# Altium footprint library wzy.PcbLib: 28 footprints (part 1 of 2)
Each footprint in its own frame and in the unit in brackets; x right, y up, seen from the top. Pads: shape width x height; smd on the part's side, far side on the other; paste and mask are expansions set on the pad; w line width, h text height; cw(c..) or ccw(c..) is an arc to the next point about the centre after c.
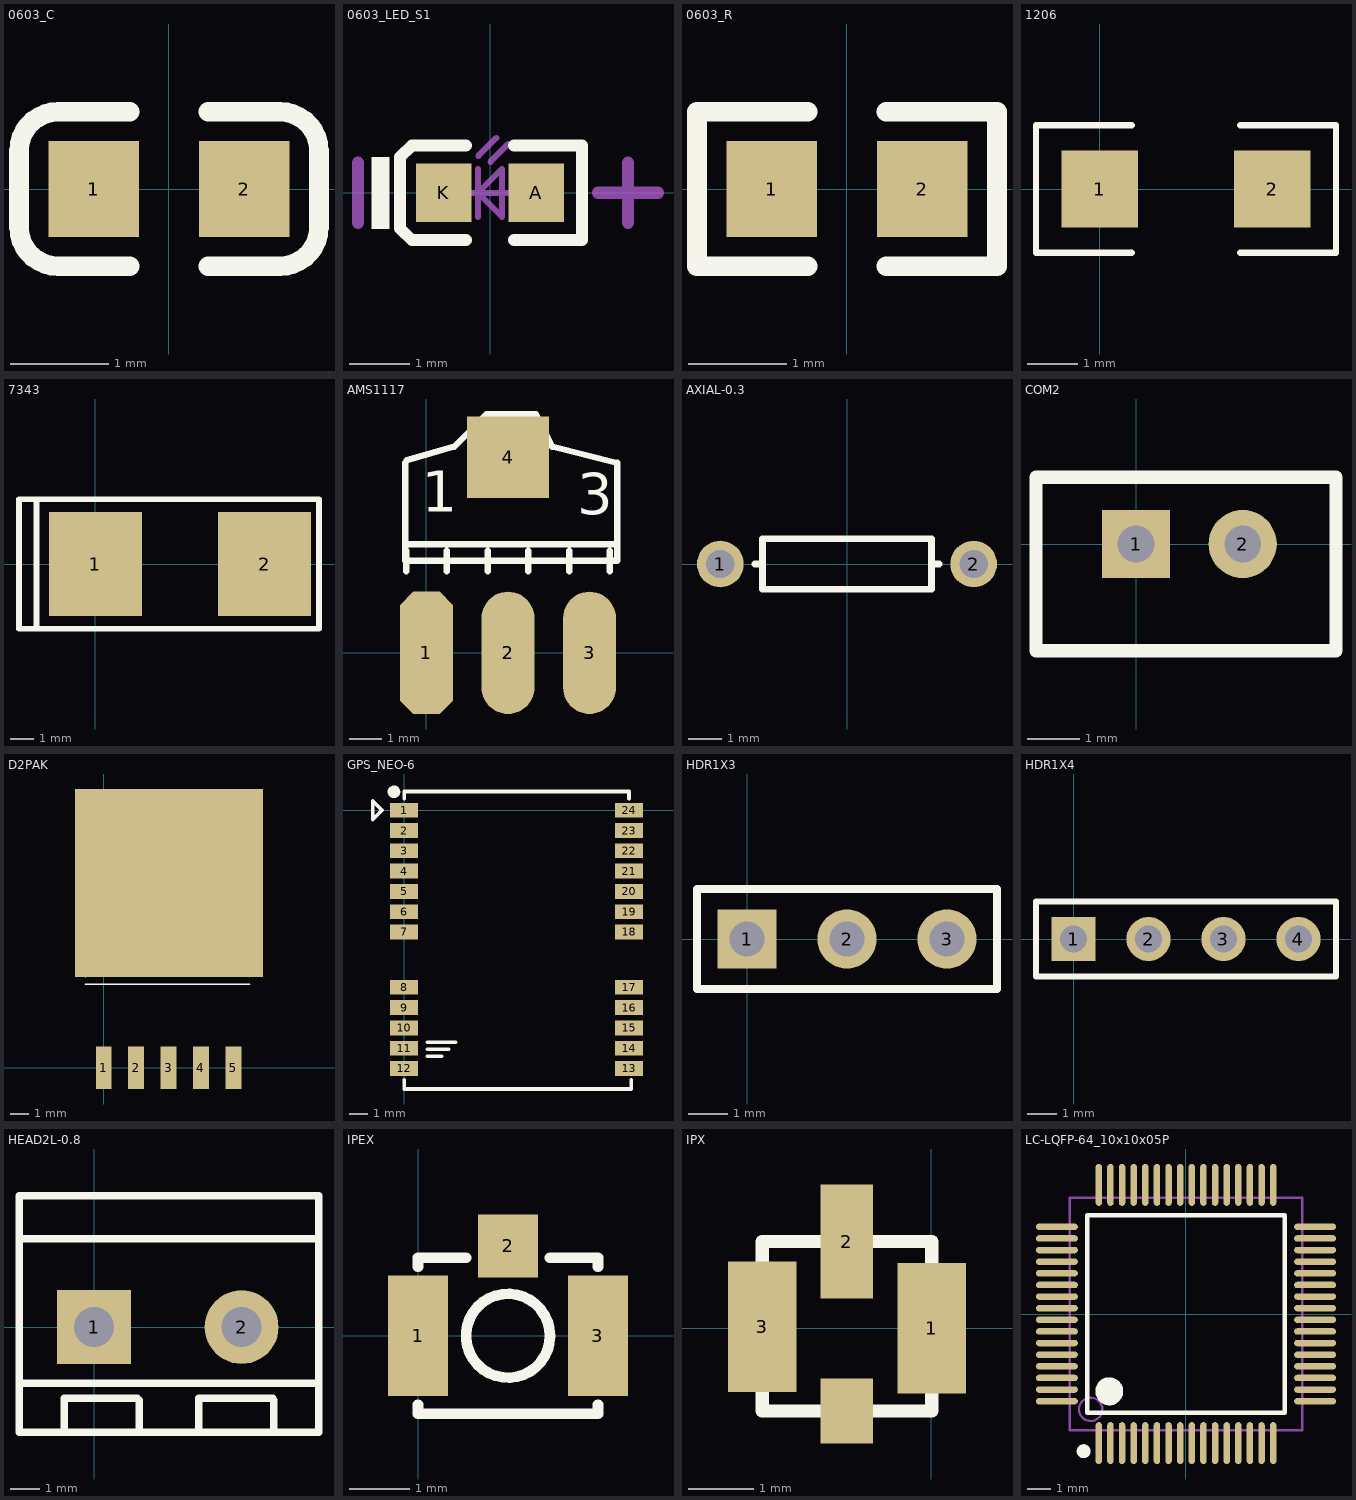
[diagram p0: the footprints below, top view; thin cyan lines are the x and y axes]

## 0603_C [mm]
pads (2):
  rect 0.93x0.98 smd: 1(-0.77,0) 2(0.77,0)
Top Overlay:
  lines w0.2: -0.4,-0.79 -1.135,-0.79 cw(c-1.135,-0.39) -1.535,-0.39 -1.535,0.39 cw(c-1.135,0.39) -1.135,0.79 -0.4,0.79 ; 0.4,-0.79 1.135,-0.79 ccw(c1.135,-0.39) 1.535,-0.39 1.535,0.39 ccw(c1.135,0.39) 1.135,0.79 0.4,0.79
3D body "User Library-0603 SMD Capacitor.STEP": height 0.3, standoff 0, extent -0.8,-0.4 0.8,0.4

## 0603_LED_S1 [mm]
pads (2):
  rect 0.93x0.98 smd: A(0.77,0) K(-0.77,0)
Top Overlay:
  rectangle: -1.975,-0.6 -1.675,0.6
  lines w0.2: -0.4,-0.79 -1.3,-0.79 -1.5,-0.597 -1.5,0.597 -1.3,0.79 -0.4,0.79 ; 0.4,-0.79 1.535,-0.79 1.535,0.79 0.4,0.79
Mechanical 13:
  lines w0.1: -0.4,0 0.4,0 ; -0.2,-0.4 -0.2,0.4 ; -0.195,0.617 0.105,0.917 ; 0.005,0.517 0.305,0.817 ; -0.2,0 0.2,-0.4 0.2,0.4 -0.2,0
Mechanical 15:
  lines w0.203: -2.2,-0.5 -2.2,0.5 ; 1.8,0 2.8,0 ; 2.3,-0.5 2.3,0.5
3D body "User Library-LED_0603_R.STEP": height 0.6, standoff 0, extent -0.8,-0.4 0.8,0.4

## 0603_R [mm]
pads (2):
  rect 0.93x0.98 smd: 1(-0.77,0) 2(0.77,0)
Top Overlay:
  lines w0.2: -0.4,-0.79 -1.535,-0.79 -1.535,0.79 -0.4,0.79 ; 0.4,-0.79 1.535,-0.79 1.535,0.79 0.4,0.79
3D body "User Library-RES_1609-0603.STEP": height 0.56, standoff 0, extent -0.85,-0.4 0.85,0.4

## 1206 [mil]
pads (2):
  rect 60x60 smd: 1(0,0) 2(135,0)
Top Overlay:
  lines w5: 25,-50 -50,-50 -50,50 25,50 ; 110,-50 185,-50 185,50 110,50

## 7343 [mm]
height 2.9
pads (2):
  rect 4x4.5 smd: 1(0,0) 2(7.3,0)
Top Overlay:
  lines w0.254: -2.54,-2.794 9.652,-2.794 9.652,2.794 -2.54,2.794 ; -2.54,-2.794 -2.54,2.794 ; -2.54,-2.794 -3.302,-2.794 -3.302,2.794 -2.54,2.794

## AMS1117 [mil]
pads (4):
  oct 65x150 smd: 1(0.03,-0.06)
  oval 65x150 smd: 2(100.03,-0.06) 3(200.03,-0.06)
  rect 100x100 smd: 4(100.03,239.94)
Top Overlay:
  lines w7.87: -25.97,232.94 -25.97,132.94 ; -24.97,99.94 -24.97,124.94 ; -24.3,236.27 34.03,252.94 74.03,292.94 134.03,292.94 154.03,252.94 234.03,232.94 234.03,112.94 ; 25.03,99.94 25.03,124.94 ; 75.03,99.94 75.03,124.94 ; 125.03,99.94 125.03,124.94 ; 175.03,99.94 175.03,124.94 ; 225.03,99.94 225.03,124.94 ; -25.97,132.94 -25.97,112.94 234.03,112.94 ; -25.97,132.94 234.03,132.94 234.03,112.94
  text "1" at -5.97,172.94 h50
  text "3" at 185,170 h50

## AXIAL-0.3 [mm] "Axial Device, Thru-Hole; 2 Leads; 0.3 in Pin Spacing"
height 1.524
pads (2):
  round 1.4 hole 0.85: 1(-3.81,0) 2(3.81,0)
Top Overlay:
  lines w0.2: -2.769,0 -2.54,0 ; 2.769,0 2.54,0 ; 2.54,0 2.54,0.762 -2.54,0.762 -2.54,-0.762 2.54,-0.762 2.54,0

## COM2 [mm]
pads (2):
  rect 1.3x1.3 hole 0.7: 1(0,0)
  round 1.3 hole 0.7: 2(2.032,0)
Top Overlay:
  lines w0.254: -1.905,-2.032 3.81,-2.032 3.81,1.27 -1.905,1.27 -1.905,-2.032

## D2PAK [mil]
pads (6):
  rect 34x90 smd: 1(0,0) 2(69,0) 3(138,0) 4(207,0) 5(276,0)
  rect 400x400 smd: ""(139,394)
Top Overlay:
  lines w3.94: -39,178 311,178 ; -39,194 -39,529 ; 311,194 311,529
  lines w4: -40,590 310,590 ; -39,505 -39,581 ; 311,529 311,576

## GPS_NEO-6 [mm]
pads (24):
  rect 1.524x0.8 smd: 1(0,0) 2(0,-1.1) 3(0,-2.2) 4(0,-3.3) 5(0,-4.4) 6(0,-5.5) 7(0,-6.6) 8(0,-9.6) 9(0,-10.7) 10(0,-11.8) 11(0,-12.9) 12(0,-14) 13(12.2,-14) 14(12.2,-12.9) 15(12.2,-11.8) 16(12.2,-10.7) 17(12.2,-9.6) 18(12.2,-6.6) 19(12.2,-5.5) 20(12.2,-4.4) 21(12.2,-3.3) 22(12.2,-2.2) 23(12.2,-1.1) 24(12.2,0)
Top Overlay:
  circle w0.381: c-0.552,1 r0.152
  lines w0.152: -1.7,-0.5 -1.7,0.5 -1.2,0 -1.7,-0.5
  lines w0.203: 0,-14.605 0,-15.113 12.319,-15.113 12.319,-14.605 ; 0,0.635 0,1.016 12.192,1.016 12.192,0.635 ; 1.27,-13.335 2.032,-13.335 ; 1.27,-12.954 2.413,-12.954 ; 1.27,-12.573 2.794,-12.573 ; -1.2,0 -1.7,-0.5 -1.7,0.5 -1.2,0 ; -1.2,0 -1.2,0

## HDR1X3 [mm] "Connector; Header; 3 Position"
pads (3):
  rect 1.5x1.5 hole 0.9: 1(0,0)
  round 1.5 hole 0.9: 2(2.54,0) 3(5.08,0)
Top Overlay:
  lines w0.2: -1.27,-1.27 6.35,-1.27 6.35,1.27 -1.27,1.27 -1.27,-1.27

## HDR1X4 [mm] "Connector; Header; 4 Position"
pads (4):
  rect 1.5x1.5 hole 0.9: 1(0,0)
  round 1.5 hole 0.9: 2(2.54,0) 3(5.08,0) 4(7.62,0)
Top Overlay:
  lines w0.2: -1.27,-1.27 -1.27,1.27 8.89,1.27 8.89,-1.27 -1.27,-1.27

## HEAD2L-0.8 [mm]
pads (2):
  rect 2.5x2.5 hole 1.35: 1(0,0)
  round 2.5 hole 1.35: 2(5,0)
Top Overlay:
  lines w0.254: -2.54,-1.905 7.62,-1.905 ; -2.54,3 7.62,3 ; -1.016,-3.556 -1.016,-2.476 ; -1.016,-2.413 1.461,-2.413 1.524,-2.476 1.524,-3.556 ; 3.556,-3.493 3.556,-2.413 6.056,-2.413 ; 6.096,-3.556 6.096,-2.476 ; -2.54,-3.556 -2.54,4.445 7.62,4.445 7.62,-3.556 -2.54,-3.556

## IPEX [mm]
pads (3):
  rect 1x2 smd: 1(0,0) 3(3,0)
  rect 1x1.05 smd: 2(1.5,1.5)
Top Overlay:
  circle w0.178: c1.5,0 r0.7
  lines w0.178: 0,-1.15 0,-1.3 3,-1.3 3,-1.15 ; 0,1.15 0,1.3 0.8,1.3 ; 2.2,1.3 3,1.3 3,1.15

## IPX [mm]
pads (4):
  rect 1.054x2 smd: 1(0.009,0) 3(-2.591,0.025)
  rect 0.8x1.754 smd: 2(-1.295,1.33)
  rect 0.8x1 smd: ""(-1.295,-1.27)
Top Overlay:
  lines w0.203: -2.591,-1.27 -2.591,1.33 0.009,1.33 0.009,-1.27 -2.591,-1.27

## LC-LQFP-64_10x10x05P [mm]
pads (64):
  oval 0.28x1.8 smd mask+0.051: 1(-3.75,-5.55) 2(-3.25,-5.55) 3(-2.75,-5.55) 4(-2.25,-5.55) 5(-1.75,-5.55) 6(-1.25,-5.55) 7(-0.75,-5.55) 8(-0.25,-5.55) 9(0.25,-5.55) 10(0.75,-5.55) 11(1.25,-5.55) 12(1.75,-5.55) 13(2.25,-5.55) 14(2.75,-5.55) 15(3.25,-5.55) 16(3.75,-5.55) 33(3.75,5.55) 34(3.25,5.55) 35(2.75,5.55) 36(2.25,5.55) 37(1.75,5.55) 38(1.25,5.55) 39(0.75,5.55) 40(0.25,5.55) 41(-0.25,5.55) 42(-0.75,5.55) 43(-1.25,5.55) 44(-1.75,5.55) 45(-2.25,5.55) 46(-2.75,5.55) 47(-3.25,5.55) 48(-3.75,5.55)
  oval 1.8x0.28 smd mask+0.051: 17(5.55,-3.75) 18(5.55,-3.25) 19(5.55,-2.75) 20(5.55,-2.25) 21(5.55,-1.75) 22(5.55,-1.25) 23(5.55,-0.75) 24(5.55,-0.25) 25(5.55,0.25) 26(5.55,0.75) 27(5.55,1.25) 28(5.55,1.75) 29(5.55,2.25) 30(5.55,2.75) 31(5.55,3.25) 32(5.55,3.75) 49(-5.55,3.75) 50(-5.55,3.25) 51(-5.55,2.75) 52(-5.55,2.25) 53(-5.55,1.75) 54(-5.55,1.25) 55(-5.55,0.75) 56(-5.55,0.25) 57(-5.55,-0.25) 58(-5.55,-0.75) 59(-5.55,-1.25) 60(-5.55,-1.75) 61(-5.55,-2.25) 62(-5.55,-2.75) 63(-5.55,-3.25) 64(-5.55,-3.75)
Top Overlay:
  circle w0.6: c-3.3,-3.325 r0.3
  circle w0.3: c-4.4,-5.9 r0.15
  lines w0.2: -4.25,-4.25 -4.25,4.25 4.25,4.25 4.25,-4.25 -4.25,-4.25
Mechanical 13:
  circle w0.1: c-4.1,-4.1 r0.5
  lines w0.1: -5,-5 -5,5 5,5 5,-5 -5,-5